# Altium footprint library IC_SMD_QUAD.PCBLIB: 135 footprints (part 3 of 9)
Each footprint in its own frame and in the unit in brackets; x right, y up, seen from the top. Pads: shape width x height; smd on the part's side, far side on the other; paste and mask are expansions set on the pad; w line width, h text height; cw(c..) or ccw(c..) is an arc to the next point about the centre after c.
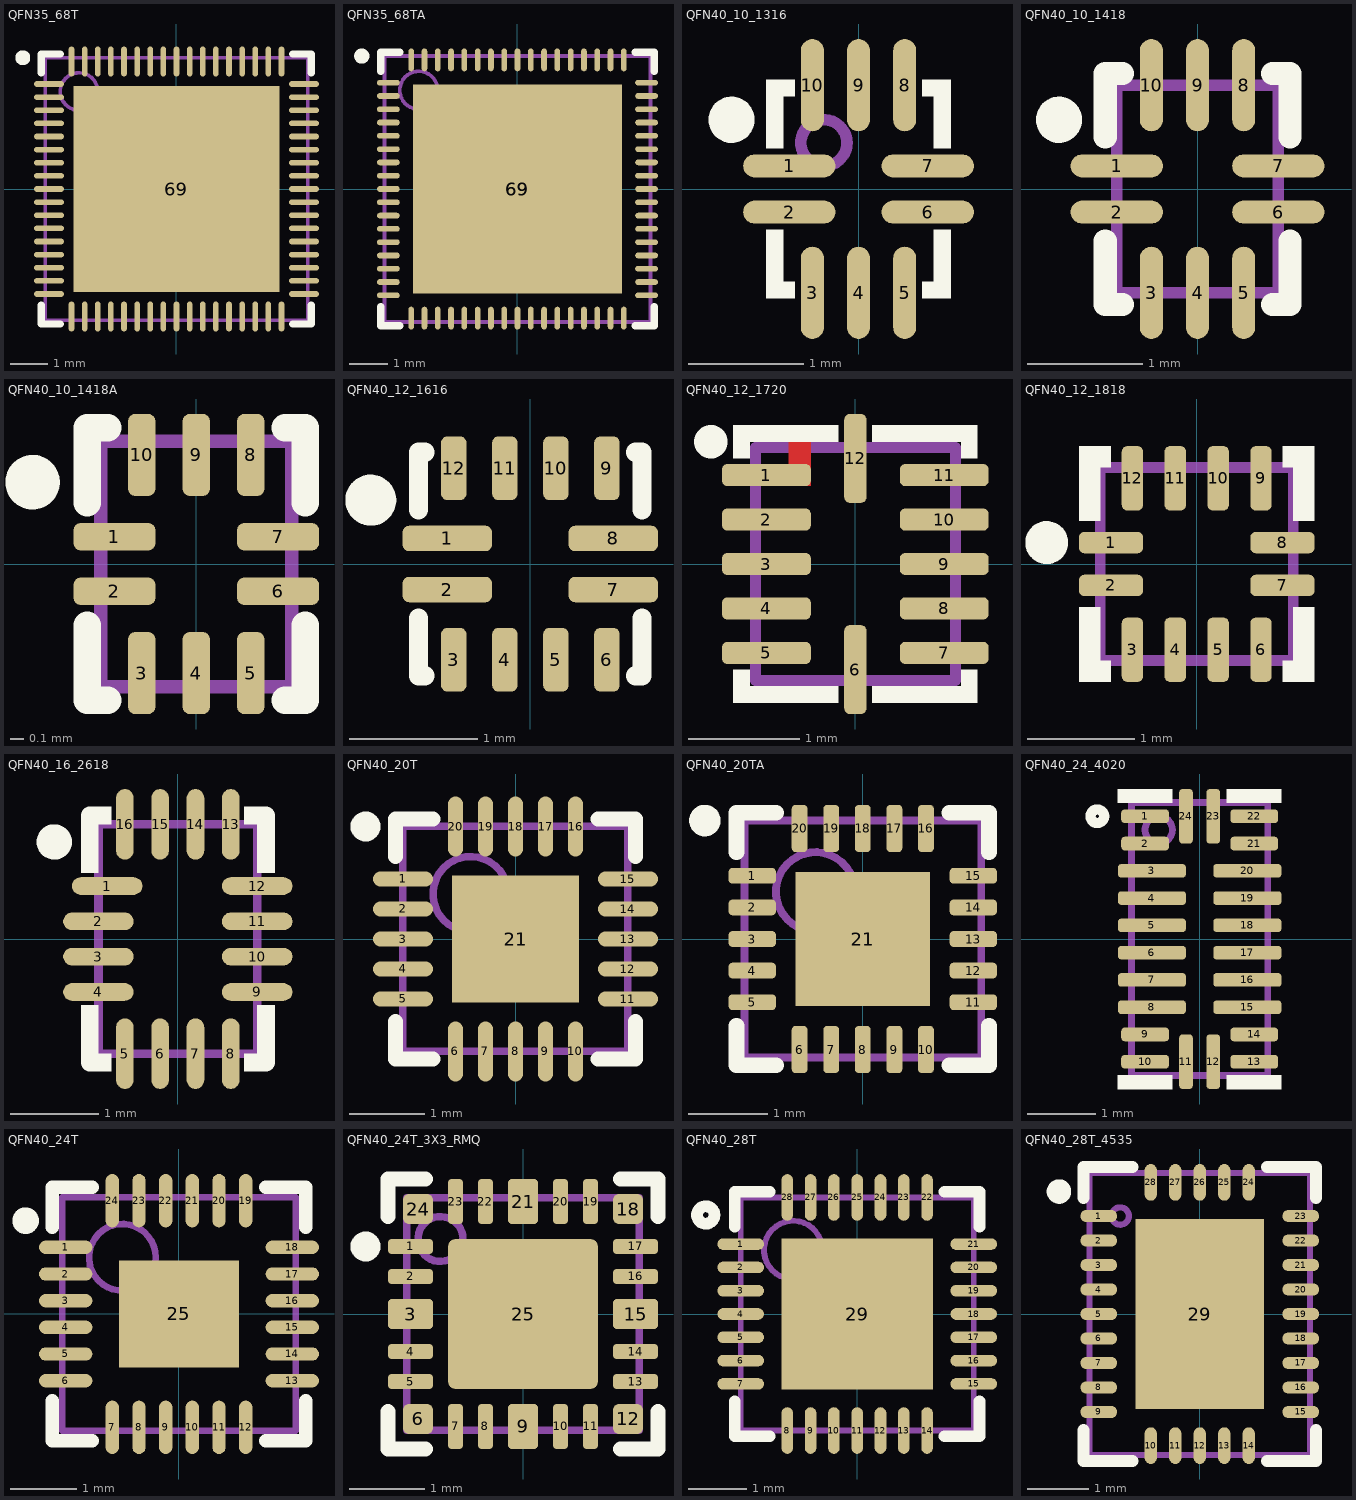
[diagram p2: the footprints below, top view; thin cyan lines are the x and y axes]

## QFN35_68T [mm] "QFN, 68-Leads, 7x7mm, Pitch 0.35mm,"
height 0.8
pads (69):
  oval 0.8x0.15 smd mask+0.05: 1(-3.4,2.8) 2(-3.4,2.45) 3(-3.4,2.1) 4(-3.4,1.75) 5(-3.4,1.4) 6(-3.4,1.05) 7(-3.4,0.7) 8(-3.4,0.35) 9(-3.4,0) 10(-3.4,-0.35) 11(-3.4,-0.7) 12(-3.4,-1.05) 13(-3.4,-1.4) 14(-3.4,-1.75) 15(-3.4,-2.1) 16(-3.4,-2.45) 17(-3.4,-2.8) 35(3.4,-2.8) 36(3.4,-2.45) 37(3.4,-2.1) 38(3.4,-1.75) 39(3.4,-1.4) 40(3.4,-1.05) 41(3.4,-0.7) 42(3.4,-0.35) 43(3.4,0) 44(3.4,0.35) 45(3.4,0.7) 46(3.4,1.05) 47(3.4,1.4) 48(3.4,1.75) 49(3.4,2.1) 50(3.4,2.45) 51(3.4,2.8)
  oval 0.15x0.8 smd mask+0.05: 18(-2.8,-3.4) 19(-2.45,-3.4) 20(-2.1,-3.4) 21(-1.75,-3.4) 22(-1.4,-3.4) 23(-1.05,-3.4) 24(-0.7,-3.4) 25(-0.35,-3.4) 26(0,-3.4) 27(0.35,-3.4) 28(0.7,-3.4) 29(1.05,-3.4) 30(1.4,-3.4) 31(1.75,-3.4) 32(2.1,-3.4) 33(2.45,-3.4) 34(2.8,-3.4) 52(2.8,3.4) 53(2.45,3.4) 54(2.1,3.4) 55(1.75,3.4) 56(1.4,3.4) 57(1.05,3.4) 58(0.7,3.4) 59(0.35,3.4) 60(0,3.4) 61(-0.35,3.4) 62(-0.7,3.4) 63(-1.05,3.4) 64(-1.4,3.4) 65(-1.75,3.4) 66(-2.1,3.4) 67(-2.45,3.4) 68(-2.8,3.4)
  rect 5.5x5.5 smd paste-6 mask+0.05: 69(0,0)
TopOverlay:
  circle w0.2: c-4.1,3.5 r0.1
  lines w0.2: -3.6,-3.1 -3.6,-3.6 -3.1,-3.6 ; -3.6,3.1 -3.6,3.6 -3.1,3.6 ; 3.1,-3.6 3.6,-3.6 3.6,-3.1 ; 3.1,3.6 3.6,3.6 3.6,3.1
TopPaste:
  rectangle: -1.2,0.2 -0.2,1.2
  rectangle: -2.6,1.6 -1.6,2.6
  region: -0.2,2.6 -1.2,2.6 -1.2,1.6 -0.2,1.6
  rectangle: -2.6,0.2 -1.6,1.2
  region: 2.6,1.2 1.6,1.2 1.6,0.2 2.6,0.2
  rectangle: 0.2,1.6 1.2,2.6
  region: 2.6,2.6 1.6,2.6 1.6,1.6 2.6,1.6
  region: 1.2,1.2 0.2,1.2 0.2,0.2 1.2,0.2
  region: 1.2,-0.2 0.2,-0.2 0.2,-1.2 1.2,-1.2
  region: 2.6,-1.6 1.6,-1.6 1.6,-2.6 2.6,-2.6
  rectangle: 0.2,-2.6 1.2,-1.6
  region: 2.6,-0.2 1.6,-0.2 1.6,-1.2 2.6,-1.2
  rectangle: -2.6,-1.2 -1.6,-0.2
  region: -0.2,-1.6 -1.2,-1.6 -1.2,-2.6 -0.2,-2.6
  rectangle: -2.6,-2.6 -1.6,-1.6
  rectangle: -1.2,-1.2 -0.2,-0.2
Mechanical13:
  circle w0.1: c-2.6,2.6 r0.5
  lines w0.1: -3.5,-3.5 -3.5,3.5 3.5,3.5 3.5,-3.5 -3.5,-3.5
3D body "QFN35_68T.step": height 0.8, standoff 0, extent -3.501,-3.501 3.501,3.501

## QFN35_68TA [mm] "QFN, 68-Leads, 7x7mm, Pitch 0.35mm, for PCBA"
height 0.8
pads (70):
  oval 0.6x0.15 smd mask+0.05: 1(-3.4,2.8) 2(-3.4,2.45) 3(-3.4,2.1) 4(-3.4,1.75) 5(-3.4,1.4) 6(-3.4,1.05) 7(-3.4,0.7) 8(-3.4,0.35) 9(-3.4,0) 10(-3.4,-0.35) 11(-3.4,-0.7) 12(-3.4,-1.05) 13(-3.4,-1.4) 14(-3.4,-1.75) 15(-3.4,-2.1) 16(-3.4,-2.45) 17(-3.4,-2.8) 35(3.4,-2.8) 36(3.4,-2.45) 37(3.4,-2.1) 38(3.4,-1.75) 39(3.4,-1.4) 40(3.4,-1.05) 41(3.4,-0.7) 42(3.4,-0.35) 43(3.4,0) 44(3.4,0.35) 45(3.4,0.7) 46(3.4,1.05) 47(3.4,1.4) 48(3.4,1.75) 49(3.4,2.1) 50(3.4,2.45) 51(3.4,2.8)
  oval 0.15x0.6 smd mask+0.05: 18(-2.8,-3.4) 19(-2.45,-3.4) 20(-2.1,-3.4) 21(-1.75,-3.4) 22(-1.4,-3.4) 23(-1.05,-3.4) 24(-0.7,-3.4) 25(-0.35,-3.4) 26(0,-3.4) 27(0.35,-3.4) 28(0.7,-3.4) 29(1.05,-3.4) 30(1.4,-3.4) 31(1.75,-3.4) 32(2.1,-3.4) 33(2.45,-3.4) 34(2.8,-3.4) 52(2.8,3.4) 53(2.45,3.4) 54(2.1,3.4) 55(1.75,3.4) 56(1.4,3.4) 57(1.05,3.4) 58(0.7,3.4) 59(0.35,3.4) 60(0,3.4) 61(-0.35,3.4) 62(-0.7,3.4) 63(-1.05,3.4) 64(-1.4,3.4) 65(-1.75,3.4) 66(-2.1,3.4) 67(-2.45,3.4) 68(-2.8,3.4)
  rect 5.5x5.5 smd paste-6 mask+0.05: 69(0,0) 69(0,0)
TopOverlay:
  circle w0.2: c-4.1,3.5 r0.1
  lines w0.2: -3.6,-3.1 -3.6,-3.6 -3.1,-3.6 ; -3.6,3.1 -3.6,3.6 -3.1,3.6 ; 3.1,-3.6 3.6,-3.6 3.6,-3.1 ; 3.1,3.6 3.6,3.6 3.6,3.1
TopPaste:
  rectangle: -1.2,-1.2 -0.2,-0.2
  rectangle: -2.6,-2.6 -1.6,-1.6
  region: -0.2,-1.6 -1.2,-1.6 -1.2,-2.6 -0.2,-2.6
  rectangle: -2.6,-1.2 -1.6,-0.2
  region: 2.6,-0.2 1.6,-0.2 1.6,-1.2 2.6,-1.2
  rectangle: 0.2,-2.6 1.2,-1.6
  region: 2.6,-1.6 1.6,-1.6 1.6,-2.6 2.6,-2.6
  region: 1.2,-0.2 0.2,-0.2 0.2,-1.2 1.2,-1.2
  region: 1.2,1.2 0.2,1.2 0.2,0.2 1.2,0.2
  region: 2.6,2.6 1.6,2.6 1.6,1.6 2.6,1.6
  rectangle: 0.2,1.6 1.2,2.6
  region: 2.6,1.2 1.6,1.2 1.6,0.2 2.6,0.2
  rectangle: -2.6,0.2 -1.6,1.2
  region: -0.2,2.6 -1.2,2.6 -1.2,1.6 -0.2,1.6
  rectangle: -2.6,1.6 -1.6,2.6
  rectangle: -1.2,0.2 -0.2,1.2
Mechanical13:
  circle w0.1: c-2.6,2.6 r0.5
  lines w0.1: -3.5,-3.5 3.5,-3.5 3.5,3.5 -3.5,3.5 -3.5,-3.5
3D body "QFN35_68T.step": height 0.8, standoff 0, extent -3.501,-3.501 3.501,3.501

## QFN40_10_1316 [mm] "QFN, 10, 1.3X1.6mm, 0.4mm, LFCSP, CP-10-10"
height 0.5
pads (10):
  oval 0.8x0.2 smd mask+0.05: 1(-0.6,0.2) 2(-0.6,-0.2) 6(0.6,-0.2) 7(0.6,0.2)
  oval 0.2x0.8 smd mask+0.05: 3(-0.4,-0.9) 4(0,-0.9) 5(0.4,-0.9) 8(0.4,0.9) 9(0,0.9) 10(-0.4,0.9)
TopOverlay:
  circle w0.2: c-1.1,0.6 r0.1
  region: 0.8,0.95 0.65,0.95 0.65,0.35 0.8,0.35
  region: 0.8,0.95 0.55,0.95 0.55,0.8 0.8,0.8
  region: 0.8,-0.8 0.55,-0.8 0.55,-0.95 0.8,-0.95
  region: 0.8,-0.35 0.65,-0.35 0.65,-0.95 0.8,-0.95
  rectangle: -0.8,-0.95 -0.65,-0.35
  rectangle: -0.8,-0.95 -0.55,-0.8
  rectangle: -0.8,0.8 -0.55,0.95
  rectangle: -0.8,0.35 -0.65,0.95
Mechanical13:
  circle w0.1: c-0.3,0.4 r0.2
3D body "User Library-LFCSP-10.step": height 0.55, standoff 0, extent -0.65,-0.8 0.65,0.8

## QFN40_10_1418 [mm] "PUQFN-10 RSW 1.8X1.4mm, 0.4mm pitch"
height 0.55
pads (10):
  oval 0.8x0.2 smd mask+0.05: 1(-0.7,0.2) 2(-0.7,-0.2) 6(0.7,-0.2) 7(0.7,0.2)
  oval 0.2x0.8 smd mask+0.05: 3(-0.4,-0.9) 4(0,-0.9) 5(0.4,-0.9) 8(0.4,0.9) 9(0,0.9) 10(-0.4,0.9)
TopOverlay:
  circle w0.2: c-1.2,0.6 r0.1
  lines w0.2: -0.8,-0.45 -0.8,-1 -0.65,-1 ; -0.8,0.45 -0.8,1 -0.65,1 ; 0.65,-1 0.8,-1 0.8,-0.45 ; 0.65,1 0.8,1 0.8,0.45
Mechanical13:
  lines w0.1: -0.7,-0.9 0.7,-0.9 0.7,0.9 -0.7,0.9 -0.7,-0.9
3D body "QFN40_10_140X180.step": height 0.55, standoff 0, extent -0.701,-0.901 0.701,0.901

## QFN40_10_1418A [mm] "PUQFN-10 RSW 1.8X1.4mm, 0.4mm pitch"
height 0.55
pads (10):
  rrect50% 0.6x0.2 smd mask+0.05: 1(-0.6,0.2) 2(-0.6,-0.2) 6(0.6,-0.2) 7(0.6,0.2)
  rrect50% 0.2x0.6 smd mask+0.05: 3(-0.4,-0.8) 4(0,-0.8) 5(0.4,-0.8) 8(0.4,0.8) 9(0,0.8) 10(-0.4,0.8)
TopOverlay:
  circle w0.2: c-1.2,0.6 r0.1
  lines w0.2: -0.8,-0.45 -0.8,-1 -0.65,-1 ; -0.8,0.45 -0.8,1 -0.65,1 ; 0.65,-1 0.8,-1 0.8,-0.45 ; 0.65,1 0.8,1 0.8,0.45
Mechanical13:
  lines w0.1: -0.7,-0.9 0.7,-0.9 0.7,0.9 -0.7,0.9 -0.7,-0.9
3D body "QFN40_10_140X180.step": height 0.55, standoff 0, extent -0.701,-0.901 0.701,0.901

## QFN40_12_1616 [mm] "X2QFN-12, RWB, 1.6x1.6x0.4mm, 0.4mm pitch"
height 0.4
pads (12):
  rrect50% 0.7x0.2 smd paste+0 mask+0.05: 1(-0.65,0.2) 2(-0.65,-0.2) 7(0.65,-0.2) 8(0.65,0.2)
  rrect50% 0.2x0.5 smd paste+0 mask+0.05: 3(-0.6,-0.75) 4(-0.2,-0.75) 5(0.2,-0.75) 6(0.6,-0.75) 9(0.6,0.75) 10(0.2,0.75) 11(-0.2,0.75) 12(-0.6,0.75)
TopOverlay:
  circle w0.2: c-1.25,0.5 r0.1
  lines w0.15: -0.875,-0.425 -0.875,-0.875 -0.825,-0.875 ; -0.875,0.425 -0.875,0.875 -0.825,0.875 ; 0.825,-0.875 0.875,-0.875 0.875,-0.425 ; 0.825,0.875 0.875,0.875 0.875,0.425
3D body "RWB0012A.stp": height 0.4, standoff 0, extent -0.8,-0.8 0.8,0.8

## QFN40_12_1720 [mm] "RUT, UQFN-12, pitch: 0.4mm, 1.7x2x0.5mm"
height 0.55
pads (12):
  rrect50% 0.8x0.2 smd mask+0.05: 1(-0.8,0.8) 2(-0.8,0.4) 3(-0.8,0) 4(-0.8,-0.4) 5(-0.8,-0.8) 7(0.8,-0.8) 8(0.8,-0.4) 9(0.8,0) 10(0.8,0.4) 11(0.8,0.8)
  rrect50% 0.2x0.8 smd mask+0.05: 6(0,-0.95) 12(0,0.95)
TopLayer:
  rectangle: -0.6,0.7 -0.4,1.1
TopOverlay:
  circle w0.2: c-1.3,1.1 r0.05
  rectangle: -1.1,-1.25 -0.15,-1.1
  rectangle: -1.1,-1.25 -0.95,-0.95
  region: 1.1,-0.95 0.95,-0.95 0.95,-1.25 1.1,-1.25
  region: 1.1,-1.1 0.15,-1.1 0.15,-1.25 1.1,-1.25
  region: 1.1,1.25 0.15,1.25 0.15,1.1 1.1,1.1
  region: 1.1,1.25 0.95,1.25 0.95,0.95 1.1,0.95
  rectangle: -1.1,0.95 -0.95,1.25
  rectangle: -1.1,1.1 -0.15,1.25
TopSolder:
  rectangle: -0.65,0.65 -0.35,1.1
Mechanical13:
  lines w0.1: -0.9,-1.05 0.9,-1.05 0.9,1.05 -0.9,1.05 -0.9,-1.05
3D body "QFN40_12_170X200.step": height 0.55, standoff 0, extent -0.901,-1.051 0.901,1.051

## QFN40_12_1818 [mm] "UMLP-12, QFN, 12-Leads, 1.8x1.80mm, Pitch 0.40mm, JEDEC MO-252"
height 0.55
pads (12):
  rrect50% 0.6x0.2 smd mask+0.05: 1(-0.8,0.2) 2(-0.8,-0.2) 7(0.8,-0.2) 8(0.8,0.2)
  rrect50% 0.2x0.6 smd mask+0.05: 3(-0.6,-0.8) 4(-0.2,-0.8) 5(0.2,-0.8) 6(0.6,-0.8) 9(0.6,0.8) 10(0.2,0.8) 11(-0.2,0.8) 12(-0.6,0.8)
TopOverlay:
  circle w0.2: c-1.4,0.2 r0.1
  region: 1.1,-1 1.1,-0.4 0.9,-0.4 0.9,-1
  region: 1.1,-1.1 1.1,-0.9 0.8,-0.9 0.8,-1.1
  region: 0.8,1.1 0.8,0.9 1.1,0.9 1.1,1.1
  region: 0.9,1 0.9,0.4 1.1,0.4 1.1,1
  region: -1.1,1 -1.1,0.4 -0.9,0.4 -0.9,1
  region: -1.1,1.1 -1.1,0.9 -0.8,0.9 -0.8,1.1
  region: -0.8,-1.1 -0.8,-0.9 -1.1,-0.9 -1.1,-1.1
  region: -0.9,-1 -0.9,-0.4 -1.1,-0.4 -1.1,-1
Mechanical13:
  lines w0.1: -0.9,-0.9 -0.9,0.9 0.9,0.9 0.9,-0.9 -0.9,-0.9
3D body "QFN40_12_1818.step": height 0.55, standoff 0, extent -0.91,-0.91 0.91,0.91

## QFN40_16_2618 [mm] "PUQFN-16 RSV XQFN16 SOT1161-1, 2.6X1.8mm, 0.4mm pitch"
height 0.55
pads (16):
  oval 0.8x0.2 smd mask+0.05: 1(-0.8,0.6) 2(-0.9,0.2) 3(-0.9,-0.2) 4(-0.9,-0.6) 9(0.9,-0.6) 10(0.9,-0.2) 11(0.9,0.2) 12(0.9,0.6)
  oval 0.2x0.8 smd mask+0.05: 5(-0.6,-1.3) 6(-0.2,-1.3) 7(0.2,-1.3) 8(0.6,-1.3) 13(0.6,1.3) 14(0.2,1.3) 15(-0.2,1.3) 16(-0.6,1.3)
TopOverlay:
  circle w0.2: c-1.4,1.1 r0.1
  rectangle: -0.9,1.3 -0.75,1.5
  region: -1.1,0.9 -1.1,0.75 -0.9,0.75 -0.9,0.9
  region: 0.9,0.9 0.9,0.75 1.1,0.75 1.1,0.9
  region: 0.9,1.5 0.75,1.5 0.75,1.3 0.9,1.3
  region: 0.9,-1.3 0.75,-1.3 0.75,-1.5 0.9,-1.5
  region: 1.1,-0.9 1.1,-0.75 0.9,-0.75 0.9,-0.9
  region: -0.9,-0.9 -0.9,-0.75 -1.1,-0.75 -1.1,-0.9
  rectangle: -0.9,-1.5 -0.75,-1.3
  lines w0.2: -1,-0.85 -1,-1.4 -0.9,-1.4 ; -1,0.85 -1,1.4 -0.9,1.4 ; 0.9,-1.4 1,-1.4 1,-0.85 ; 0.9,1.4 1,1.4 1,0.85
Mechanical13:
  lines w0.1: -0.9,-1.3 -0.9,1.3 0.9,1.3 0.9,-1.3 -0.9,-1.3
3D body "QFN40_16_260X180.step": height 0.55, standoff 0, extent -0.901,-1.301 0.901,1.301

## QFN40_20T [mm] "QFN, RUK, PWQFN, 20-Leads, Body 3X3mm, Pitch 0.40mm"
height 0.6
pads (21):
  oval 0.8x0.2 smd mask+0.05: 1(-1.5,0.8) 2(-1.5,0.4) 3(-1.5,0) 4(-1.5,-0.4) 5(-1.5,-0.8) 11(1.5,-0.8) 12(1.5,-0.4) 13(1.5,0) 14(1.5,0.4) 15(1.5,0.8)
  oval 0.2x0.8 smd mask+0.05: 6(-0.8,-1.5) 7(-0.4,-1.5) 8(0,-1.5) 9(0.4,-1.5) 10(0.8,-1.5) 16(0.8,1.5) 17(0.4,1.5) 18(0,1.5) 19(-0.4,1.5) 20(-0.8,1.5)
  rect 1.7x1.7 smd paste-3 mask+0.075: 21(0,0)
TopOverlay:
  circle w0.2: c-2,1.5 r0.1
  lines w0.2: -1.6,-1.1 -1.6,-1.6 -1.1,-1.6 ; -1.6,1.1 -1.6,1.6 -1.1,1.6 ; 1.1,-1.6 1.6,-1.6 1.6,-1.1 ; 1.1,1.6 1.6,1.6 1.6,1.1
TopPaste:
  region: -0.8,-0.8 -0.1,-0.8 -0.1,-0.1 -0.8,-0.1
  region: 0.8,-0.8 0.1,-0.8 0.1,-0.1 0.8,-0.1
  region: 0.8,0.8 0.1,0.8 0.1,0.1 0.8,0.1
  region: -0.8,0.8 -0.1,0.8 -0.1,0.1 -0.8,0.1
Mechanical13:
  circle w0.1: c-0.6,0.6 r0.5
  lines w0.1: -1.5,-1.5 -1.5,1.5 1.5,1.5 1.5,-1.5 -1.5,-1.5
3D body "QFN40P300X300X60_HS-21N.step": height 0.6, standoff 0, extent -1.51,-1.51 1.51,1.51

## QFN40_20TA [mm] "QFN, RUK, PWQFN, 20-Leads, Body 3X3mm, Pitch 0.40mm"
height 0.6
pads (21):
  rrect50% 0.6x0.2 smd mask+0.05: 1(-1.4,0.8) 2(-1.4,0.4) 3(-1.4,0) 4(-1.4,-0.4) 5(-1.4,-0.8) 11(1.4,-0.8) 12(1.4,-0.4) 13(1.4,0) 14(1.4,0.4) 15(1.4,0.8)
  rrect50% 0.2x0.6 smd mask+0.05: 6(-0.8,-1.4) 7(-0.4,-1.4) 8(0,-1.4) 9(0.4,-1.4) 10(0.8,-1.4) 16(0.8,1.4) 17(0.4,1.4) 18(0,1.4) 19(-0.4,1.4) 20(-0.8,1.4)
  rect 1.7x1.7 smd paste-3 mask+0.075: 21(0,0)
TopOverlay:
  circle w0.2: c-2,1.5 r0.1
  lines w0.2: -1.6,-1.1 -1.6,-1.6 -1.1,-1.6 ; -1.6,1.1 -1.6,1.6 -1.1,1.6 ; 1.1,-1.6 1.6,-1.6 1.6,-1.1 ; 1.1,1.6 1.6,1.6 1.6,1.1
TopPaste:
  region: -0.8,-0.8 -0.1,-0.8 -0.1,-0.1 -0.8,-0.1
  region: 0.8,-0.8 0.1,-0.8 0.1,-0.1 0.8,-0.1
  region: 0.8,0.8 0.1,0.8 0.1,0.1 0.8,0.1
  region: -0.8,0.8 -0.1,0.8 -0.1,0.1 -0.8,0.1
Mechanical13:
  circle w0.1: c-0.6,0.6 r0.5
  lines w0.1: -1.5,-1.5 -1.5,1.5 1.5,1.5 1.5,-1.5 -1.5,-1.5
3D body "QFN40P300X300X60_HS-21N.step": height 0.6, standoff 0, extent -1.51,-1.51 1.51,1.51

## QFN40_24_4020 [mm] "RJW UQFN-24, 2x4mm, Pitch 0.40mm"
height 0.55
pads (24):
  rrect50% 0.7x0.2 smd mask+0.05: 1(-0.8,1.8) 2(-0.8,1.4) 9(-0.8,-1.4) 10(-0.8,-1.8) 13(0.8,-1.8) 14(0.8,-1.4) 21(0.8,1.4) 22(0.8,1.8)
  rrect50% 1x0.2 smd mask+0.05: 3(-0.7,1) 4(-0.7,0.6) 5(-0.7,0.2) 6(-0.7,-0.2) 7(-0.7,-0.6) 8(-0.7,-1) 15(0.7,-1) 16(0.7,-0.6) 17(0.7,-0.2) 18(0.7,0.2) 19(0.7,0.6) 20(0.7,1)
  rrect50% 0.2x0.8 smd mask+0.05: 11(-0.2,-1.8) 12(0.2,-1.8) 23(0.2,1.8) 24(-0.2,1.8)
TopOverlay:
  circle w0.15: c-1.5,1.8 r0.1
  region: -0.4,2.2 -0.4,2 -1.2,2 -1.2,2.2
  region: 0.4,2.2 0.4,2 1.2,2 1.2,2.2
  region: -0.4,-2.2 -0.4,-2 -1.2,-2 -1.2,-2.2
  region: 0.4,-2.2 0.4,-2 1.2,-2 1.2,-2.2
Mechanical13:
  circle w0.1: c-0.6,1.6 r0.2
  lines w0.1: -1,-2 -1,2 1,2 1,-2 -1,-2
3D body "RJW0024A.stp": height 0.55, standoff 0, extent -1,-2 1,2

## QFN40_24T [mm] "QFN, 24-Leads, Body 3.5x3.5mm, Pitch 0.40mm"
height 1
pads (25):
  oval 0.8x0.2 smd mask+0.05: 1(-1.7,1) 2(-1.7,0.6) 3(-1.7,0.2) 4(-1.7,-0.2) 5(-1.7,-0.6) 6(-1.7,-1) 13(1.7,-1) 14(1.7,-0.6) 15(1.7,-0.2) 16(1.7,0.2) 17(1.7,0.6) 18(1.7,1)
  oval 0.2x0.8 smd mask+0.05: 7(-1,-1.7) 8(-0.6,-1.7) 9(-0.2,-1.7) 10(0.2,-1.7) 11(0.6,-1.7) 12(1,-1.7) 19(1,1.7) 20(0.6,1.7) 21(0.2,1.7) 22(-0.2,1.7) 23(-0.6,1.7) 24(-1,1.7)
  rect 1.8x1.6 smd paste-5: 25(0,0)
TopOverlay:
  circle w0.2: c-2.3,1.4 r0.1
  lines w0.2: -1.9,-1.3 -1.9,-1.9 -1.3,-1.9 ; -1.9,1.3 -1.9,1.9 -1.3,1.9 ; 1.3,-1.9 1.9,-1.9 1.9,-1.3 ; 1.3,1.9 1.9,1.9 1.9,1.3
TopPaste:
  region: 0.8,0.7 0.1,0.7 0.1,0.1 0.8,0.1
  region: -0.8,0.7 -0.1,0.7 -0.1,0.1 -0.8,0.1
  region: -0.8,-0.7 -0.1,-0.7 -0.1,-0.1 -0.8,-0.1
  region: 0.8,-0.7 0.1,-0.7 0.1,-0.1 0.8,-0.1
Mechanical13:
  circle w0.1: c-0.85,0.85 r0.5
  lines w0.1: -1.75,-1.75 1.75,-1.75 1.75,1.75 -1.75,1.75 -1.75,-1.75
3D body "QFN40_24T.step": height 1, standoff 0, extent -1.76,-1.76 1.76,1.76

## QFN40_24T_3X3_RMQ [mm] "WQFN-24, RMQ, SAW, 3x3mm, Pitch 0.40mm"
height 0.8
pads (25):
  rrect50% 0.6x0.2 smd mask+0.05: 1(-1.5,0.9) 2(-1.5,0.5) 4(-1.5,-0.5) 5(-1.5,-0.9) 13(1.5,-0.9) 14(1.5,-0.5) 16(1.5,0.5) 17(1.5,0.9)
  rrect25% 0.6x0.4 smd mask+0.05: 3(-1.5,0) 15(1.5,0)
  rrect40% 0.4x0.4 smd mask+0.05: 6(-1.4,-1.4) 12(1.4,-1.4) 18(1.4,1.4) 24(-1.4,1.4)
  rrect50% 0.2x0.6 smd mask+0.05: 7(-0.9,-1.5) 8(-0.5,-1.5) 10(0.5,-1.5) 11(0.9,-1.5) 19(0.9,1.5) 20(0.5,1.5) 22(-0.5,1.5) 23(-0.9,1.5)
  rrect25% 0.4x0.6 smd mask+0.05: 9(0,-1.5) 21(0,1.5)
  rrect10% 2x2 smd paste-1.9 mask+0.05: 25(0,0)
TopOverlay:
  circle w0.2: c-2.1,0.9 r0.1
  lines w0.2: -1.8,-1.3 -1.8,-1.8 -1.3,-1.8 ; -1.8,1.3 -1.8,1.8 -1.3,1.8 ; 1.3,-1.8 1.8,-1.8 1.8,-1.3 ; 1.3,1.8 1.8,1.8 1.8,1.3
TopPaste:
  region: -0.8,-0.8 -0.1,-0.8 -0.1,-0.1 -0.8,-0.1
  region: 0.8,-0.8 0.1,-0.8 0.1,-0.1 0.8,-0.1
  region: 0.8,0.8 0.1,0.8 0.1,0.1 0.8,0.1
  region: -0.8,0.8 -0.1,0.8 -0.1,0.1 -0.8,0.1
Mechanical5:
  circle w0.1: c-1.1,1 r0.3
  lines w0.1: -1.55,-1.55 1.55,-1.55 1.55,1.55 -1.55,1.55 -1.55,-1.55
  text ".Designator" at 0.7,-3.9 h0.75
3D body "RMQ0024A.stp": height 0.8, standoff 0, extent -1.5,-1.5 1.5,1.5

## QFN40_28T [mm] "QFN28, 0.4mm pitch, 4x4mm, MLPQ-UT28"
height 0.6
pads (29):
  oval 0.8x0.2 smd mask+0.05: 1(-2,1.2) 2(-2,0.8) 3(-2,0.4) 4(-2,0) 5(-2,-0.4) 6(-2,-0.8) 7(-2,-1.2) 15(2,-1.2) 16(2,-0.8) 17(2,-0.4) 18(2,0) 19(2,0.4) 20(2,0.8) 21(2,1.2)
  oval 0.2x0.8 smd mask+0.05: 8(-1.2,-2) 9(-0.8,-2) 10(-0.4,-2) 11(0,-2) 12(0.4,-2) 13(0.8,-2) 14(1.2,-2) 22(1.2,2) 23(0.8,2) 24(0.4,2) 25(0,2) 26(-0.4,2) 27(-0.8,2) 28(-1.2,2)
  rect 2.6x2.6 smd paste-5 mask+0.05: 29(0,0)
TopOverlay:
  circle w0.2: c-2.6,1.7 r0.15
  lines w0.2: -2.1,-1.5 -2.1,-2.1 -1.5,-2.1 ; -2.1,1.5 -2.1,2.1 -1.5,2.1 ; 1.5,-2.1 2.1,-2.1 2.1,-1.5 ; 1.5,2.1 2.1,2.1 2.1,1.5
TopPaste:
  rectangle: -1.2,0.2 -0.2,1.2
  region: 1.2,1.2 0.2,1.2 0.2,0.2 1.2,0.2
  region: 1.2,-0.2 0.2,-0.2 0.2,-1.2 1.2,-1.2
  rectangle: -1.2,-1.2 -0.2,-0.2
Mechanical13:
  circle w0.1: c-1.1,1.1 r0.5
  lines w0.1: -2,-2 2,-2 2,2 -2,2 -2,-2
3D body "QFN40_28T.step": height 0.6, standoff 0, extent -2.001,-2.001 2.001,2.001

## QFN40_28T_4535 [mm] "VQFN-CLIP 28, RVE, 4.5x3.5x1, 0.4mm pitch"
height 1
pads (29):
  oval 0.6x0.2 smd paste+0 mask+0.05: 1(-1.65,1.6) 2(-1.65,1.2) 3(-1.65,0.8) 4(-1.65,0.4) 5(-1.65,0) 6(-1.65,-0.4) 7(-1.65,-0.8) 8(-1.65,-1.2) 9(-1.65,-1.6) 15(1.65,-1.6) 16(1.65,-1.2) 17(1.65,-0.8) 18(1.65,-0.4) 19(1.65,0) 20(1.65,0.4) 21(1.65,0.8) 22(1.65,1.2) 23(1.65,1.6)
  oval 0.2x0.6 smd paste+0 mask+0.05: 10(-0.8,-2.15) 11(-0.4,-2.15) 12(0,-2.15) 13(0.4,-2.15) 14(0.8,-2.15) 24(0.8,2.15) 25(0.4,2.15) 26(0,2.15) 27(-0.4,2.15) 28(-0.8,2.15)
  rect 2.1x3.1 smd paste-1.537 mask+0.051: 29(0,0)
TopOverlay:
  circle w0.2: c-2.3,2 r0.1
  lines w0.2: -1.9,-1.9 -1.9,-2.4 -1.1,-2.4 ; -1.9,1.9 -1.9,2.4 -1.1,2.4 ; 1.1,-2.4 1.9,-2.4 1.9,-1.9 ; 1.1,2.4 1.9,2.4 1.9,1.9
TopPaste:
  region: 0.1,0.1 0.1,1.45 1,1.45 1,0.1
  region: 0.1,-1.45 0.1,-0.1 1,-0.1 1,-1.45
  region: -0.1,-1.45 -0.1,-0.1 -1,-0.1 -1,-1.45
  region: -0.1,0.1 -0.1,1.45 -1,1.45 -1,0.1
Mechanical13:
  circle w0.1: c-1.3,1.6 r0.141
  lines w0.1: -1.8,-2.3 1.8,-2.3 1.8,2.3 -1.8,2.3 -1.8,-2.3
3D body "RVE0028A.stp": height 1, standoff 0, extent -1.75,-2.25 1.75,2.25